# Altium schematic symbol library 60W-PD.SchLib: 134 symbols
Pins are listed as number, name and electrical type; pins without a type are passive.

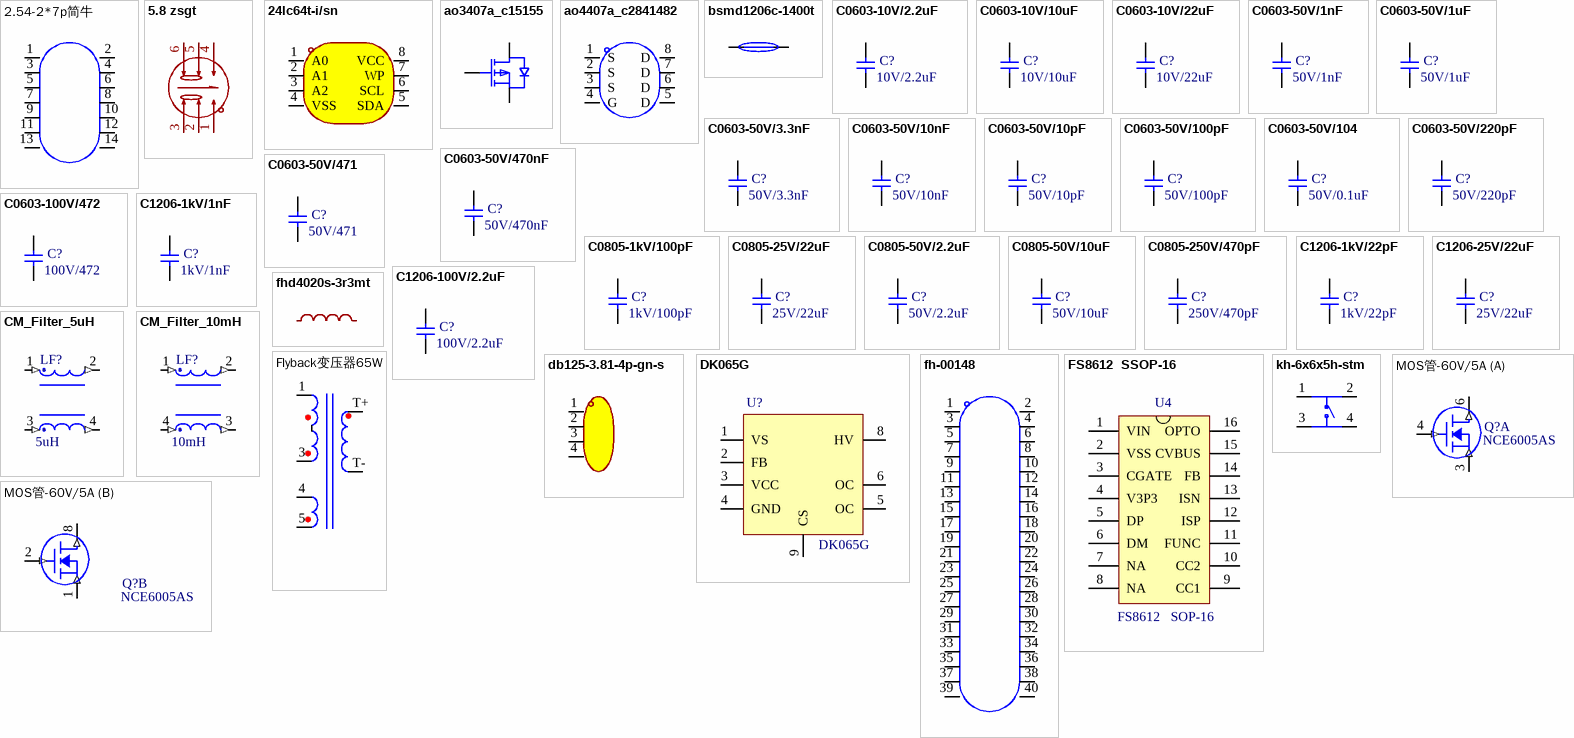
[diagram p0: symbols 2.54-2*7p简牛 to MOS管-60V/5A]

## 2.54-2*7p简牛
designator P?  (value not drawn)
连接器类型:简牛座;间距:2.54mm;结构:2x7P;安装方式:直插;行距:2.54mm;排数:2;每排PIN数:7;触头材质:黄铜;触头镀层:金;; Manufacturer: BOOMELE(博穆精密); Symbol: HDR-IDC-2.54-2X7P; AddInBom: yes; ModelId: 1e191473481d43b08e40c7df32061c8c; ModelName: IDC-TH_14P-P2.54-V-R2-C7-S2.54; ModelTransform: 999.998,348.41478,0,0,0,0,0,3.937,-118.11; Connector Type: 简牛座; Pitch: 2.54mm; Number of Positions or Pins: 2x7P; Holder Type: 直插; Number of PINs Per Row: 7; LCSC Part Name: 2.54mm 2x7P 排数:2 每排P数:7; SupplierPart: C11215; ManufacturerPart: 2.54-2*7P简牛; Supplier Footprint: 插件,P=2.54mm; JLCPCB Part Class: Extended Part; Datasheet: https://item.szlcsc.com/datasheet/2.54-2*7P%25E7%25AE%2580%25E7%2589%259B/11764.html; Supplier: LCSC; ConvertToPcb: yes; FootprintName: IDC-TH_14P-P2.54-V-R2-C7-S2.54; Row Spacing: 2.54mm; Number of Rows: 2; Contact Material: 黄铜; Contact Plating: 金
footprint IDC-TH_14P-P2.54-V-R2-C7-S2.54
pins: 1, 2, 3, 4, 5, 6, 7, 8, 9, 10, 11, 12, 13, 14

## 5.8 zsgt
designator SW?  (value not drawn)
电路结构:双刀双掷;自锁/无锁:自锁;安装方式:直插;触点电流:110mA;额定电压:30V;带灯:不带;作用力:1.5N;工作寿命:10万次;; Manufacturer: SHOU HAN(首韩); AddInBom: yes; ModelId: 3b6e980975cd43bda015b2e9aaa869d3; ModelName: SW-TH_5.8ZSGT; ModelTransform: 228.346,228.346,0,0,0,0,0,0,-141.732; Circuit: 双刀双掷; Self Lock / No Lock: 自锁; Actuator Style: 方形按钮; Contact Current: 110mA; Voltage Rating: 30V; Actuator/Cap Color: 白色; With Lamp: 不带; Operating Force: 1.5N; Life: 10万次; Symbol: 5.8 ZSGT; LCSC Part Name: 5.8*5.8有头/高头 带锁/自锁开关 泡泡机开关; SupplierPart: C2681587; ManufacturerPart: 5.8 ZSGT; Supplier Footprint: 插件; JLCPCB Part Class: Extended Part; Datasheet: https://item.szlcsc.com/datasheet/5.8%2520ZSGT/2774930.html; Supplier: LCSC; ConvertToPcb: yes; FootprintName: SW-TH_5.8ZSGT; Mounting Type: 直插; Termination Style: PC引脚; Operating Temperature: -10℃~+70℃
footprint SW-TH_5.8ZSGT
pins: 1, 2, 3, 4, 5, 6

## 24lc64t-i/sn
designator U?  (value not drawn)
接口类型:I2C;存储容量:64Kbit;时钟频率(fc):400kHz;; Manufacturer: MICROCHIP(美国微芯); Symbol: 24LC64T-I/SN SOP-8; AddInBom: yes; ModelId: e81d2f7d937b4a6ab1dca543ff5d56a4; ModelName: SOIC-8_L4.9-W3.9-H1.7-LS6.0-P1.27; ModelTransform: 192.913,236.22,0,0,0,0,0,0,0; Interface: I2C; Memory Size: 64Kbit; Clock Frequency: 400kHz; Write Cycle Time(Tw): 5ms; Data Retention - TDR (Year): 200年; Write Cycle Endurance: 100万次; Voltage - Supply: 2.5V~5.5V; LCSC Part Name: 64K I²C 串行 EEPROM; SupplierPart: C5460; ManufacturerPart: 24LC64T-I/SN; Supplier Footprint: SOIC-8; JLCPCB Part Class: Extended Part; Datasheet: https://item.szlcsc.com/datasheet/24LC64T-I%252FSN/5911.html; Supplier: LCSC; ConvertToPcb: yes; FootprintName: SOIC-8_L4.9-W3.9-P1.27-LS6.0-BL; Features: 噪声抑制功能；硬件写保护功能; Operating Temperature: -40℃~+85℃
footprint SOIC-8_L4.9-W3.9-P1.27-LS6.0-BL
pins: 1 A0, 2 A1, 3 A2, 4 VSS, 5 SDA, 6 SCL, 7 WP, 8 VCC

## ao3407a_c15155
designator Q?  (value not drawn)
数量:1个P沟道;漏源电压(Vdss):30V;连续漏极电流(Id):4.3A;导通电阻(RDS(on)):48mΩ@10V;耗散功率(Pd):-;阈值电压(Vgs(th)):2.5V@250uA;; Manufacturer: AOS; AddInBom: yes; ModelId: 89cb27a44ab2466697082bb9fd73a7d0; ModelName: SOT-23-3L_L2.9-W1.6-H1.1-LS2.8-P0.95; ModelTransform: 114.173,110.236,0,90,0,0,0,0,0; Number: 1个P沟道; Drain to Source Voltage: 30V; Current - Continuous Drain(Id): 4.3A; Gate Charge(Qg): 16nC@10V; Input Capacitance(Ciss): 830pF; Reverse Transfer Capacitance (Crss@Vds): 92pF@15V; Symbol: AO3407A; LCSC Part Name: 1个P沟道 耐压:30V 电流:4.3A; SupplierPart: C15155; ManufacturerPart: AO3407A; Supplier Footprint: SOT-23; JLCPCB Part Class: Extended Part; Datasheet: https://item.szlcsc.com/datasheet/AO3407A/15829.html; Supplier: LCSC; ConvertToPcb: yes; FootprintName: SOT-23-3_L2.9-W1.6-P1.90-LS2.8-BR; RDS(on): 48mΩ@10V; Pd - Power Dissipation: -; Gate Threshold Voltage (Vgs(th)): 2.5V@250uA; Operating Temperature: -; Configuration: -; Type: -; Output Capacitance(Coss): -
footprint SOT-23-3_L2.9-W1.6-P1.90-LS2.8-BR
pins: 1 G, 2 S, 3 D

## ao4407a_c2841482
designator Q?  (value not drawn)
数量:1个P沟道;漏源电压(Vdss):30V;连续漏极电流(Id):14A;导通电阻(RDS(on)):9.5mΩ@10V；14.7mΩ@4.5V;耗散功率(Pd):3.1W;阈值电压(Vgs(th)):1.8V@250uA;; Manufacturer: UMW(友台半导体); AddInBom: yes; ModelId: a3315c1c78f949e6bb82c6eaca1c53c7; ModelName: SOP-8_L5.0-W4.0-H1.8-LS6.2-P1.27; ModelTransform: 244.094,196.85,0,90,0,0,0,0,0; Number: 1个P沟道; Drain to Source Voltage: 30V; Current - Continuous Drain(Id): 14A; Pd - Power Dissipation: 3.1W; Gate Charge(Qg): 40nC@10V；20nC@4.5V; Input Capacitance(Ciss): 2.05nF; Reverse Transfer Capacitance (Crss@Vds): 300pF; Output Capacitance(Coss): 330pF; Symbol: AO4407A_C2841482; LCSC Part Name: 1个P沟道 耐压:30V 电流:14A; SupplierPart: C2841482; ManufacturerPart: AO4407A; Supplier Footprint: SOP-8; JLCPCB Part Class: Extended Part; Datasheet: https://item.szlcsc.com/datasheet/AO4407A/3024118.html; Supplier: LCSC; ConvertToPcb: yes; FootprintName: SOP-8_L5.0-W4.0-P1.27-LS6.0-BL; RDS(on): 9.5mΩ@10V；14.7mΩ@4.5V; Gate Threshold Voltage (Vgs(th)): 1.8V@250uA; Operating Temperature: -55℃~+150℃
footprint SOP-8_L5.0-W4.0-P1.27-LS6.0-BL
pins: 1 S, 2 S, 3 S, 4 G, 5 D, 6 D, 7 D, 8 D

## bsmd1206c-1400t
designator F?  (value not drawn)
类型:贴片式保险丝;额定电流:4A;额定电压 (AC):72V;额定电压:72V;分断能力:50A;; Manufacturer: BHFUSE(佰宏); AddInBom: yes; ModelId: f1628daad26847a79b887277a2bc8541; ModelName: F1206_L3.2-W1.7-H0.6; ModelTransform: 125.984,66.929,0,0,0,0,0,0,0; Type: 贴片式保险丝; Current Rating: 4A; Voltage Rating (AC): 72V; Interrupt Rating: 50A; Symbol: BSMD1206C-1400T; LCSC Part Name: 1206 4A 72V 一次性 慢速熔断; SupplierPart: C41367227; ManufacturerPart: BSMD1206C-1400T; Supplier Footprint: 1206; JLCPCB Part Class: Extended Part; Datasheet: https://item.szlcsc.com/datasheet/BSMD1206C-1400T/43118980.html; Supplier: LCSC; ConvertToPcb: yes; FootprintName: F1206; Voltage Rating (DC): 72V; Operating Temperature: -55℃~+150℃; Length: 3.2mm; Width: 1.6mm
footprint F1206
pins: 1, 2

## C0603-10V/2.2uF
designator C?, comment 10V/2.2uF
0603,10V/2.2uF
footprint C0603
pins: 1, 2

## C0603-10V/10uF
designator C?, comment 10V/10uF
0603,10V/10uF
footprint C0603
pins: 1, 2

## C0603-10V/22uF
designator C?, comment 10V/22uF
0603,10V/22uF
footprint C0603
pins: 1, 2

## C0603-50V/1nF
designator C?, comment 50V/1nF
0603,50V/1nF
footprint C0603
pins: 1, 2

## C0603-50V/1uF
designator C?, comment 50V/1uF
0603,50V/1uF
footprint C0603
pins: 1, 2

## C0603-50V/3.3nF
designator C?, comment 50V/3.3nF
0603,50V/3.3nF
footprint C0603
pins: 1, 2

## C0603-50V/10nF
designator C?, comment 50V/10nF
0603,50V/10nF
footprint C0603
pins: 1, 2

## C0603-50V/10pF
designator C?, comment 50V/10pF
0603,50V/10pF
footprint C0603
pins: 1, 2

## C0603-50V/100pF
designator C?, comment 50V/100pF
0603,50V/100pF
footprint C0603
pins: 1, 2

## C0603-50V/104
designator C?, comment 50V/0.1uF
0603,50V/104
footprint C0603
pins: 1, 2

## C0603-50V/220pF
designator C?, comment 50V/220pF
0603,50V/220pF
footprint C0603
pins: 1, 2

## C0603-50V/470nF
designator C?, comment 50V/470nF
0603,50V/470nF
footprint C0603
pins: 1, 2

## C0603-50V/471
designator C?, comment 50V/471
0603,50V/471,
footprint C0603
pins: 1, 2

## C0603-100V/472
designator C?, comment 100V/472
0603,100V/472
footprint C0603
pins: 1, 2

## C0805-1kV/100pF
designator C?, comment 1kV/100pF
0805,1kV/100pF
footprint C0805
pins: 1, 2

## C0805-25V/22uF
designator C?, comment 25V/22uF
0805,25V/22uF,
footprint C0805
pins: 1, 2

## C0805-50V/2.2uF
designator C?, comment 50V/2.2uF
0805,50V/2.2uF,
footprint C0805
pins: 1, 2

## C0805-50V/10uF
designator C?, comment 50V/10uF
0805,50V/10uF,
footprint C0805
pins: 1, 2

## C0805-250V/470pF
designator C?, comment 250V/470pF
0805,250V/470pF
footprint C0805
pins: 1, 2

## C1206-1kV/1nF
designator C?, comment 1kV/1nF
1206,1kV/1nF
footprint C1206
pins: 1, 2

## C1206-1kV/22pF
designator C?, comment 1kV/22pF
1206,1kV/22pF
footprint C1206
pins: 1, 2

## C1206-25V/22uF
designator C?, comment 25V/22uF
1206,25V/22uF
footprint C1206
pins: 1, 2

## C1206-100V/2.2uF
designator C?, comment 100V/2.2uF
1206,100V/2.2uF
footprint C1206
pins: 1, 2

## CM_Filter_5uH
designator LF?, comment 5uH
5uH@100kHz,5A,PSMCAQ1050-501P,PROD(谱罗德)
footprint FILTER-SMD_4P-L9.5-W8.3_PSMCAQ1050-222P
pins: 1 (in), 2 (out), 3 (in), 4 (out)

## CM_Filter_10mH
designator LF?, comment 10mH
类型：SQ扁平线电感 电感值：10mH@@额定电流：1.5A@@直流电阻：200mΩMAX@@线径：0.1*1.0线,XR(祥如)
footprint IND-TH_4P-L14.0-W9.0_XRSQ1010-10MH-V-58-1
pins: 1 (in), 2 (out), 3 4 (out), 4 3 (in)

## db125-3.81-4p-gn-s
designator U?  (value not drawn)
结构:1x4P;间距:3.81mm;颜色:绿色;安装方式:直插;排数:1;每排PIN数:4;额定电流:10A;额定电压:300V;线规 - AWG:16~26;线规 - 平方毫米:1;工作温度:-40℃~+105℃;; Manufacturer: DORABO(地博电气); AddInBom: yes; ModelId: 11e8572fb837469c9a45098d5493725c; ModelName: CONN-TH_DB3.81-LI-4P-125; ModelTransform: 619.6736,291.338,0,180,0,0,11.811,-7.874,-157.48; Number of Positions or Pins: 1x4P; Pitch: 3.81mm; Number of PINs Per Row: 4; Screw Specification: M2; Current Rating: 10A; Voltage Rating (Max): 300V; Wire Gauge - AWG: 16~26; Wire Gauge - mm2: 1; Symbol: DB125-3.81-4P; LCSC Part Name: 1x4P 3.81mm 直插 排数:1 每排P数:4; SupplierPart: C395880; ManufacturerPart: DB125-3.81-4P-GN-S; Supplier Footprint: 插件,P=3.81mm; JLCPCB Part Class: Extended Part; Datasheet: https://item.szlcsc.com/datasheet/DB125-3.81-4P-GN-S/376627.html; Supplier: LCSC; ConvertToPcb: yes; FootprintName: CONN-TH_DB125-3.81-4P; Color: 绿色; Mounting Type: 直插; Number of Pins: 4P; Number of Rows: 1; Operating Temperature: -40℃~+105℃
footprint CONN-TH_DB125-3.81-4P
pins: 1, 2, 3, 4

## DK065G
designator U?
DK065G,DK(东科半导体),DFN-7(8x8)
footprint DFN-7_L8.0-W8.0-P2.00-BL-EP
pins: 1 VS, 2 FB, 3 VCC, 4 GND, 5 OC, 6 OC, 8 HV, 9 CS

## fh-00148
designator H?  (value not drawn)
插孔结构:2x20P;间距:2.54mm;行距:2.54mm;圆孔/方孔:方孔;安装方式:立贴;排数:双排;总孔位数:40P;额定电流:3A;额定电压:-;插孔方向:顶部;塑高:7.1mm;触头材质:黄铜;触头镀层:金;工作温度:-40℃~+105℃;; Manufacturer: Liansheng(连盛); AddInBom: yes; ModelId: 353f1c4124674cc49d933acc2b8337a3; ModelName: HDR-SMD_40P-P2.54-F-LS-2X20P-R2; ModelTransform: 2015.74384,279.527,0,0,0,0,0.002,0,0; Holes Structure: 2x20P; Pitch: 2.54mm; Circular Hole / Square Hole: 方孔; Number of Positions: 40P; Current Rating: 3A; Holes Direction: 顶部; Symbol: FH-00148; LCSC Part Name: 间距:2.54mm 2x20P 立贴; SupplierPart: C2685092; ManufacturerPart: FH-00148; Supplier Footprint: SMD,P=2.54mm; JLCPCB Part Class: Extended Part; Datasheet: https://item.szlcsc.com/datasheet/FH-00148/2784366.html; Supplier: LCSC; ConvertToPcb: yes; FootprintName: HDR-SMD_40P-P2.54-V-F-R2-C20-S7.1-EH; Row Spacing: 2.54mm; Mounting Type: 立贴; Number of Rows: 双排; Voltage Rating (Max): -; Insulation Height: 7.1mm; Contact Material: 黄铜; Contact Plating: 金; Operating Temperature: -40℃~+105℃
footprint HDR-SMD_40P-P2.54-V-F-R2-C20-S7.1-EH
pins: 1, 2, 3, 4, 5, 6, 7, 8, 9, 10, 11, 12, 13, 14, 15, 16, 17, 18, 19, 20, 21, 22, 23, 24, 25, 26, 27, 28, 29, 30, 31, 32, 33, 34, 35, 36, 37, 38, 39, 40

## fhd4020s-3r3mt
designator L?  (value not drawn)
电感值:3.3uH;精度:±20%;额定电流:4A;饱和电流(Isat):5.9A;类型:绕线电感;; Manufacturer: cjiang(长江微电); AddInBom: yes; ModelId: 45bc3737ecfd4f3bb122605ee525b018; ModelName: IND-SMD_L4.0-W4.0-H1.9; ModelTransform: 157.48,157.484,0,0,0,0,0,0,0; Value: 3.3uH; Tolerance: ±20%; Current Rating: 4A; Current - Saturation(Isat): 5.9A; DC Resistance(DCR): 73mΩ; Type: 绕线电感; Symbol: FHD4020S-3R3MT; LCSC Part Name: 3.3uH ±20% 5.9A; SupplierPart: C602030; ManufacturerPart: FHD4020S-3R3MT; Supplier Footprint: SMD,4x4mm; JLCPCB Part Class: Extended Part; Datasheet: https://atta.szlcsc.com/upload/public/pdf/source/20200609/C601990_BCEA243EC4DA0A9A288AA78A6DFB48A5.pdf; Supplier: LCSC; ConvertToPcb: yes; FootprintName: IND-SMD_L4.0-W4.0
footprint IND-SMD_L4.0-W4.0
pins: 1, 2

## Flyback变压器65W
designator T?
footprint ATQ23.7
pins: 1, 3, 4, 5, T+, T-
text: ●

## FS8612  SSOP-16
designator U4, comment FS8612   SOP-16
速芯微,FS8612,typeC PD3.0协议芯片,SSOP-16
footprint SSOP-16-LT1008
pins: 1 VIN, 2 VSS, 3 CGATE, 4 V3P3, 5 DP, 6 DM, 7 NA, 8 NA, 9 CC1, 10 CC2, 11 FUNC, 12 ISP, 13 ISN, 14 FB, 15 CVBUS, 16 OPTO

## kh-6x6x5h-stm
designator SW?  (value not drawn)
电路结构:单刀单掷;按钮形状:圆形按钮;安装方式:立贴;开关长度:6mm;开关宽度:6mm;开关高度:5mm;带支架:不带支架;触点电流:50mA;额定电压:12V;工作寿命:8万次;; Manufacturer: kinghelm(金航标); AddInBom: yes; ModelId: 46371efb35684031937580a0045530ec; ModelName: SW-SMD_4P-L6.0-W6.0-P4.50-LS9.0_H5.0; ModelTransform: 354.33,236.25937,0,0,0,0,0,0,0; Circuit: 单刀单掷; Actuator Style: 圆形按钮; Switch Height: 5mm; with Bracket: 不带支架; Contact Current: 50mA; Voltage Rating: 12V; Actuator/Cap Color: 黑色; Life: 8万次; Symbol: KH-6X6X5H-STM; LCSC Part Name: 6*6*5mm 立贴 轻触开关; SupplierPart: C2837531; ManufacturerPart: KH-6X6X5H-STM; Supplier Footprint: SMD-4P,6x6mm; JLCPCB Part Class: Extended Part; Datasheet: https://item.szlcsc.com/datasheet/KH-6X6X5H-STM/3009601.html; Supplier: LCSC; ConvertToPcb: yes; FootprintName: SW-SMD_4P-L6.0-W6.0-P4.50-LS9.0_H5.0; Mounting Type: 立贴; Length: 6mm; Width: 6mm; Termination Style: 鸥翼型
footprint SW-SMD_4P-L6.0-W6.0-P4.50-LS9.0_H5.0
pins: 1, 2, 3, 4

## MOS管-60V/5A
designator Q?, comment NCE6005AS
NCE6005AS,60V/5A,Rdson=35m,新洁能,2个N沟道
footprint SOP-8_L4.9-W3.9-P1.27-LS6.0-BL-2mos
part A pins: 3 S (in), 4 G (in), 6 D (out)
part B pins: 1 S (in), 2 G (in), 8 D (out)

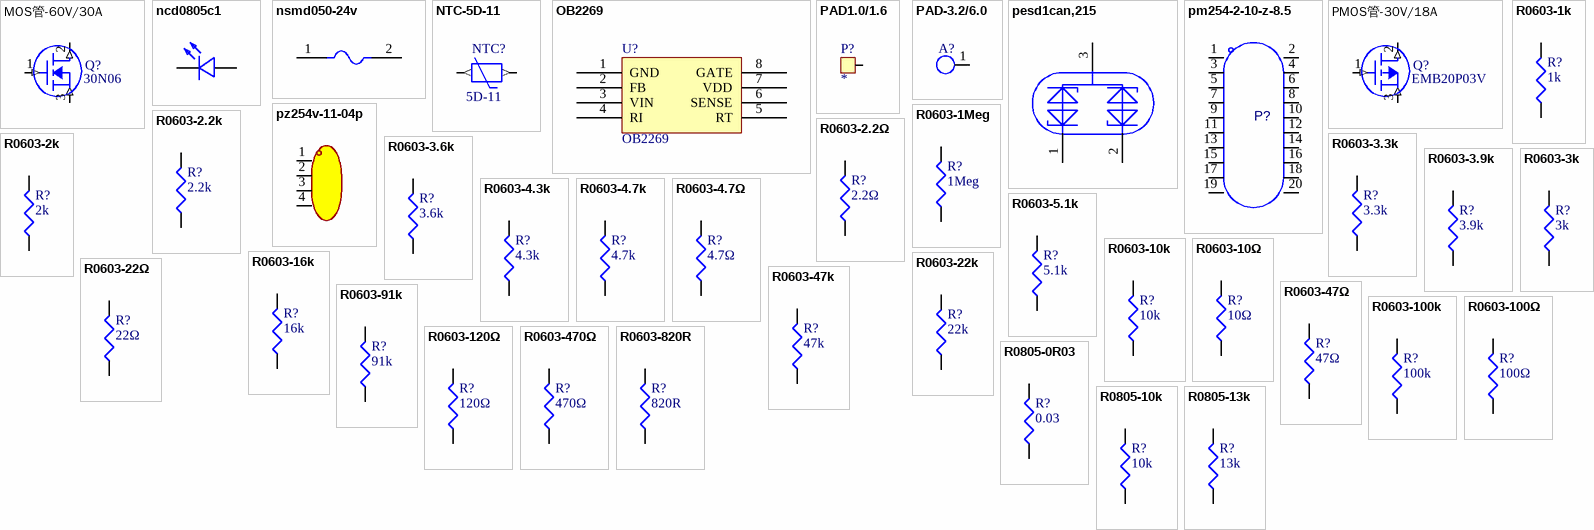
[diagram p1: symbols MOS管-60V/30A to R0805-13k]

## MOS管-60V/30A
designator Q?, comment 30N06
30N06,60V/30A,UMW(友台半导体),TO-252
footprint TO-252-2_L6.6-W6.1-P4.57-LS9.9-BR-CW
pins: 1 G (in), 2 D (out), 3 S (in)

## ncd0805c1
designator LED?  (value not drawn)
灯头类型:-;发光颜色:黄绿色;正向压降(Vf):1.6V~2.6V;功率:65mW;正向电流:25mA;波长:565nm~578nm;二极管配置:独立二极管;透镜颜色:-;色温:-;发光强度:55mcd;发光角度:130°;载带方式:-;工作温度:-30℃~+85℃;; Manufacturer: 国星光电; Symbol: FC-2012GHK-570A08; AddInBom: yes; ModelId: b1c5ed7a4f6e46d3bc6f6cc7c20f3fea; ModelName: LED0805-RD; ModelTransform: 79.527,49.2125,0,0,0,0,0,0,0; Illumination Color: 黄绿色; Power(Watts): 65mW; Forward Current: 25mA; Peak Wavelength: 576nm; Diode Configuration: 独立二极管; Luminous Intensity: 55mcd; Viewing Angle: 130°; LCSC Part Name: 片式发光二极管; SupplierPart: C84257; ManufacturerPart: NCD0805C1; Supplier Footprint: 0805; JLCPCB Part Class: Extended Part; Datasheet: https://item.szlcsc.com/datasheet/NCD0805C1/85426.html; Supplier: LCSC; ConvertToPcb: yes; FootprintName: LED0805-RD; Lamp Holder Type: -; Voltage - Forward(Vf): 1.6V~2.6V; Wavelength - Dominant: 565nm~578nm; Lens Color: -; Color Temperature: -; Mounting Style: -; Operating Temperature: -30℃~+85℃
footprint LED0805-RD
pins: 1 K, 2 A

## nsmd050-24v
designator F?  (value not drawn)
耐压(Vmax):24V;最大电流(Imax):100A;保持电流(Ihold):500mA;跳闸电流(Itrip):1A;; Manufacturer: 台湾陆海; AddInBom: yes; ModelId: f1628daad26847a79b887277a2bc8541; ModelName: F1206_L3.2-W1.7-H0.6; ModelTransform: 125.984,66.929,0,0,0,0,0,0,0; Voltage - Max: 24V; Current - Max: 100A; Hold Current: 500mA; Trip Current: 1A; Power Dissipation: 600mW; Resistance - Initial (Ri) (Min): 150mΩ; Resistance - Post Trip (R1) (Max): 700mΩ; Time to Trip(Max): 100ms; Symbol: nSMD050-24V; LCSC Part Name: 0.50A  24V 自恢复保险丝; SupplierPart: C70076; ManufacturerPart: nSMD050-24V; Supplier Footprint: 1206; JLCPCB Part Class: Extended Part; Datasheet: https://item.szlcsc.com/datasheet/nSMD050-24V/71171.html; Supplier: LCSC; ConvertToPcb: yes; FootprintName: F1206; Length: 3.5mm; Width: 1.8mm; Height: 1.4mm
footprint F1206
pins: 1, 2

## NTC-5D-11
designator NTC?, comment 5D-11
RUILON(瑞隆源),NTC 5D-11
footprint RES-TH_L12.5-W6.5-P7.50-D1.2-S6.3
pins: 1 (out), 2 (out)

## OB2269
designator U?
OB(昂宝),OB2269CCPA,Dmax=0.85,
footprint SOP-8_L4.9-W3.9-P1.27-LS6.0-BL
pins: 1 GND, 2 FB, 3 VIN, 4 RI, 5 RT, 6 SENSE, 7 VDD, 8 GATE

## PAD1.0/1.6
designator P?
footprint PAD1.0/1.6
pins: 1

## PAD-3.2/6.0
designator A?  (value not drawn)
footprint PAD-3.2/6.0
pins: 1

## pesd1can,215
designator D?  (value not drawn)
极性:双向;反向截止电压(Vrwm):24V;钳位电压:70V;峰值脉冲电流(Ipp):3A@8/20us;峰值脉冲功率(Ppp):200W@8/20us;击穿电压(VBR):27.8V;; Manufacturer: Nexperia(安世); AddInBom: yes; ModelId: c62791f0466c4ae2a892c056b845b0ca; ModelName: SOT-23-3P_L2.9-W1.3-H1.0-LS2.4-P0.95; ModelTransform: 98.64468,114.173,0,180,0,0,0.001,-0.002,0; Polarity: 双向; Reverse Stand-Off Voltage (Vrwm): 24V; Clamping Voltage: 70V; Voltage - Breakdown: 27.8V; Reverse Leakage Current (Ir): 1nA; Number of Channels: 双路; level of protection: IEC 61000-4-5；IEC 61000-4-2; Type: ESD; Junction Capacitance: 11pF; Symbol: PESD1CAN,215; LCSC Part Name: 双向ESD 24V截止 峰值脉冲电流：3A@8/20us; SupplierPart: C15771; ManufacturerPart: PESD1CAN,215; Supplier Footprint: SOT-23; JLCPCB Part Class: Extended Part; Datasheet: https://item.szlcsc.com/datasheet/PESD1CAN%252C215/16453.html; Supplier: LCSC; ConvertToPcb: yes; FootprintName: SOT-23_L2.9-W1.3-P1.90-LS2.4-BR; Peak Pulse Current (Ipp): 3A@8/20us; Peak Pulse Power Dissipation (Ppp): 200W@8/20us; Operating Temperature: -65℃~+150℃
footprint SOT-23_L2.9-W1.3-P1.90-LS2.4-BR
pins: 1, 2, 3

## pm254-2-10-z-8.5
designator P?  (value not drawn)
插孔结构:2x10P;间距:2.54mm;行距:2.54mm;圆孔/方孔:方孔;安装方式:直插;排数:双排;总孔位数:20P;额定电流:3A;额定电压:-;插孔方向:顶部;塑高:8.5mm;触头材质:铜合金;工作温度:-40℃~+105℃;; Manufacturer: HCTL(华灿天禄); AddInBom: yes; ModelId: b43d0c057b6b4175ab19ee916be5b1eb; ModelName: HDR-TH_20P-P2.54-F-LI-2X10P; ModelTransform: 1019.72237,196.85,0,0,0,0,0,0,-125.984; Holes Structure: 2x10P; Pitch: 2.54mm; Circular Hole / Square Hole: 方孔; Number of Positions: 20P; Current Rating: 3A; Holes Direction: 顶部; Symbol: PM254-2-10-Z-8.5; LCSC Part Name: 2x10P 间距:2.54mm 直插; SupplierPart: C2897411; ManufacturerPart: PM254-2-10-Z-8.5; Supplier Footprint: 插件,P=2.54mm; JLCPCB Part Class: Extended Part; Datasheet: https://item.szlcsc.com/datasheet/PM254-2-10-Z-8.5/3142416.html; Supplier: LCSC; ConvertToPcb: yes; FootprintName: HDR-TH_20P-P2.54-V-F-R2-C10-S2.54; Row Spacing: 2.54mm; Mounting Type: 直插; Number of Rows: 双排; Voltage Rating (Max): -; Insulation Height: 8.5mm; Contact Material: 铜合金; Operating Temperature: -40℃~+105℃
footprint HDR-TH_20P-P2.54-V-F-R2-C10-S2.54
pins: 1, 2, 3, 4, 5, 6, 7, 8, 9, 10, 11, 12, 13, 14, 15, 16, 17, 18, 19, 20

## PMOS管-30V/18A
designator Q?, comment EMB20P03V
EMB20P03V,30V/18A,EMC(杰力),DFN-8(3x3)
footprint DFN-8_L3.0-W3.0-P0.65-BL
pins: 1 G (in), 2 D (out), 3 S (in)

## pz254v-11-04p
designator H?  (value not drawn)
插针结构:1x4P;间距:2.54mm;行距:-;圆针/方针:方针;安装方式:直插;排数:单排;总PIN位数:4P;额定电流:3A;额定电压:250V;配合针长度:6mm;塑高:2.5mm;端接针长度:3mm;触头材质:-;工作温度:-40℃~+105℃;颜色:黑色;; Manufacturer: XFCN(兴飞); Symbol: PZ254V-11-04P_C2691448; AddInBom: yes; ModelId: 112f4d05e8d64e99ab9a333894bea4f9; ModelName: HDR-TH_4P-P2.54-M-LI-1X4P; ModelTransform: 399.999,104.7242,0,0,0,0,0,0,-118.11; Pin Structure: 1x4P; Pitch: 2.54mm; Circluar Pins/Square Pins: 方针; Current Rating: 3A; Voltage Rating (Max): 250V; LCSC Part Name: 1x4P 间距:2.54mm 方针 直插; SupplierPart: C2691448; ManufacturerPart: PZ254V-11-04P; Supplier Footprint: 插件,P=2.54mm; JLCPCB Part Class: Extended Part; Datasheet: https://item.szlcsc.com/datasheet/PZ254V-11-04P/2801085.html; Supplier: LCSC; ConvertToPcb: yes; FootprintName: HDR-TH_4P-P2.54-V-M; Row Spacing: -; Mounting Type: 直插; Number of Rows: 单排; Number of Pins: 4P; Length of Mating Pin: 6mm; Insulation Height: 2.5mm; Length of End Connection Pin: 3mm; Contact Material: -; Operating Temperature: -40℃~+105℃; Color: 黑色
footprint HDR-TH_4P-P2.54-V-M
pins: 1, 2, 3, 4

## R0603-1k
designator R?, comment 1k
0603,1k
footprint R0603
pins: 1, 2

## R0603-1Meg
designator R?, comment 1Meg
0603,1Meg
footprint R0603
pins: 1, 2

## R0603-2.2k
designator R?, comment 2.2k
0603,2.2k
footprint R0603
pins: 1, 2

## R0603-2.2Ω
designator R?, comment 2.2Ω
0603,2.2Ω
footprint R0603
pins: 1, 2

## R0603-2k
designator R?, comment 2k
0603,2k
footprint R0603
pins: 1, 2

## R0603-3.3k
designator R?, comment 3.3k
0603,3.3k
footprint R0603
pins: 1, 2

## R0603-3.6k
designator R?, comment 3.6k
0603,3.6k
footprint R0603
pins: 1, 2

## R0603-3.9k
designator R?, comment 3.9k
0603,3.9k
footprint R0603
pins: 1, 2

## R0603-3k
designator R?, comment 3k
0603,3k
footprint R0603
pins: 1, 2

## R0603-4.3k
designator R?, comment 4.3k
0603,4.3k
footprint R0603
pins: 1, 2

## R0603-4.7k
designator R?, comment 4.7k
0603,4.7k
footprint R0603
pins: 1, 2

## R0603-4.7Ω
designator R?, comment 4.7Ω
0603,4.7Ω
footprint R0603
pins: 1, 2

## R0603-5.1k
designator R?, comment 5.1k
0603,5.1k
footprint R0603
pins: 1, 2

## R0603-10k
designator R?, comment 10k
0603,10k
footprint R0603
pins: 1, 2

## R0603-10Ω
designator R?, comment 10Ω
0603,10Ω
footprint R0603
pins: 1, 2

## R0603-16k
designator R?, comment 16k
0603,16k
footprint R0603
pins: 1, 2

## R0603-22k
designator R?, comment 22k
0603,22k
footprint R0603
pins: 1, 2

## R0603-22Ω
designator R?, comment 22Ω
0603,22Ω
footprint R0603
pins: 1, 2

## R0603-47k
designator R?, comment 47k
0603,47k
footprint R0603
pins: 1, 2

## R0603-47Ω
designator R?, comment 47Ω
0603,47Ω
footprint R0603
pins: 1, 2

## R0603-91k
designator R?, comment 91k
0603,91k
footprint R0603
pins: 1, 2

## R0603-100k
designator R?, comment 100k
0603,100k
footprint R0603
pins: 1, 2

## R0603-100Ω
designator R?, comment 100Ω
0603,100Ω
footprint R0603
pins: 1, 2

## R0603-120Ω
designator R?, comment 120Ω
0603,120Ω
footprint R0603
pins: 1, 2

## R0603-470Ω
designator R?, comment 470Ω
0603,470Ω
footprint R0603
pins: 1, 2

## R0603-820R
designator R?, comment 820R
0603,820R
footprint R0603
pins: 1, 2

## R0805-0R03
designator R?, comment 0.03
0805,0.03,RE0805FAR030,捷而瑞
footprint R0805
pins: 1, 2

## R0805-10k
designator R?, comment 10k
0805,10k
footprint R0805
pins: 1, 2

## R0805-13k
designator R?, comment 13k
0805,13k
footprint R0805
pins: 1, 2

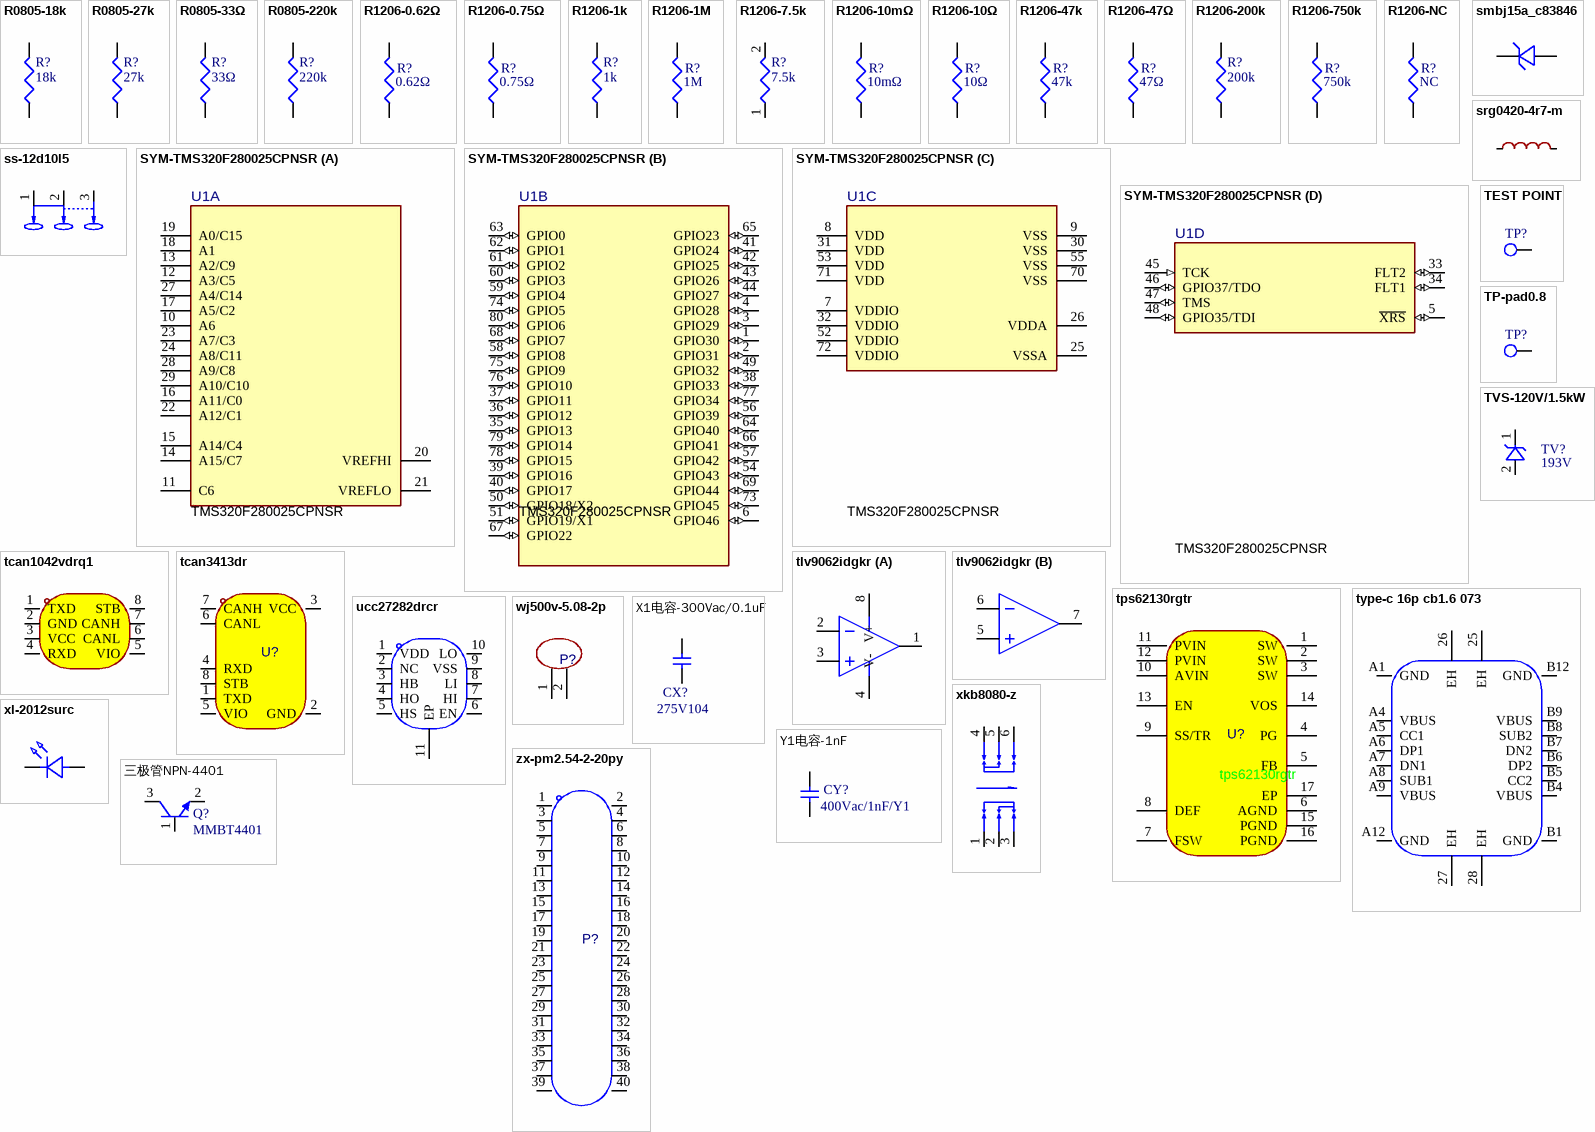
[diagram p2: symbols R0805-18k to 三极管NPN-4401]

## R0805-18k
designator R?, comment 18k
0805,18k
footprint R0805
pins: 1, 2

## R0805-27k
designator R?, comment 27k
0805,27k
footprint R0805
pins: 1, 2

## R0805-33Ω
designator R?, comment 33Ω
0805,33Ω
footprint R0805
pins: 1, 2

## R0805-220k
designator R?, comment 220k
0805,220k
footprint R0805
pins: 1, 2

## R1206-0.62Ω
designator R?, comment 0.62Ω
1206,0.62Ω
footprint R1206
pins: 1, 2

## R1206-0.75Ω
designator R?, comment 0.75Ω
1206,0.75Ω
footprint R1206
pins: 1, 2

## R1206-1k
designator R?, comment 1k
1206,1k
footprint R1206
pins: 1, 2

## R1206-1M
designator R?, comment 1M
1206,1M
footprint R1206
pins: 1, 2

## R1206-7.5k
designator R?, comment 7.5k
1206,7.5k
footprint R1206
pins: 1, 2

## R1206-10mΩ
designator R?, comment 10mΩ
1206,10mΩ
footprint R1206
pins: 1, 2

## R1206-10Ω
designator R?, comment 10Ω
1206,10Ω
footprint R1206
pins: 1, 2

## R1206-47k
designator R?, comment 47k
1206,47k
footprint R1206
pins: 1, 2

## R1206-47Ω
designator R?, comment 47Ω
1206,47Ω
footprint R1206
pins: 1, 2

## R1206-200k
designator R?, comment 200k
1206,200k
footprint R1206
pins: 1, 2

## R1206-750k
designator R?, comment 750k
1206,750k
footprint R1206
pins: 1, 2

## R1206-NC
designator R?, comment NC
1206,NC
footprint R1206
pins: 1, 2

## smbj15a_c83846
designator D?  (value not drawn)
极性:单向;反向截止电压(Vrwm):15V;钳位电压:24.4V;峰值脉冲电流(Ipp):24.6A;峰值脉冲功率(Ppp):600W;击穿电压(VBR):16.7V;; Manufacturer: Littelfuse(美国力特); AddInBom: yes; ModelId: 5e8926c661484ff2a35b83e5ae62aeb9; ModelName: SMB_L4.6-W3.6-LS5.3-RD; ModelTransform: 212.598,141.732,0,0,0,0,0,0,0; Polarity: 单向; Reverse Stand-Off Voltage (Vrwm): 15V; Clamping Voltage: 24.4V; Peak Pulse Current (Ipp): 24.6A; Peak Pulse Power Dissipation (Ppp): 600W; Voltage - Breakdown: 16.7V; Reverse Leakage Current (Ir): 1uA; level of protection: IEC 61000-4-4；IEC 61000-4-2; Type: TVS; Symbol: SMBJ15A_C83846; LCSC Part Name: 单向TVS 15V截止 峰值浪涌电流：24.6A; SupplierPart: C83846; ManufacturerPart: SMBJ15A; Supplier Footprint: DO-214AA; JLCPCB Part Class: Extended Part; Datasheet: https://item.szlcsc.com/datasheet/SMBJ15A/85013.html; Supplier: LCSC; ConvertToPcb: yes; FootprintName: SMB_L4.6-W3.6-LS5.3-RD; Operating Temperature: -65℃~+150℃
footprint SMB_L4.6-W3.6-LS5.3-RD
pins: 1, 2

## srg0420-4r7-m
designator L?  (value not drawn)
电感值:4.7uH;精度:±20%;额定电流:3A;饱和电流(Isat):3.5A;类型:一体成型电感;; Manufacturer: JIERR(捷而瑞); AddInBom: yes; ModelId: 3b00517e351145dc8b8e2e52a7e5ed2c; ModelName: IND-SMD_L4.6-W4.1-H1.5; ModelTransform: 181.102,161.417,0,0,0,0,0,0,0; Value: 4.7uH; Tolerance: ±20%; Current Rating: 3A; Current - Saturation(Isat): 3.5A; DC Resistance(DCR): 105mΩ; Type: 一体成型电感; Symbol: SRG0420-4R7-M; LCSC Part Name: 4.7μH ±20% 3.5A; SupplierPart: C53462918; ManufacturerPart: SRG0420-4R7-M; Supplier Footprint: SMD,4.6x4.1mm; JLCPCB Part Class: Extended Part; Datasheet: https://item.szlcsc.com/datasheet/SRG0420-4R7-M/56628163.html; Supplier: LCSC; ConvertToPcb: yes; FootprintName: IND-SMD_L4.6-W4.1-A
footprint IND-SMD_L4.6-W4.1-A
pins: 1, 2

## ss-12d10l5
designator S?  (value not drawn)
电路结构:单刀双掷;安装方式:直插;开关颜色:黑色;额定电流:3A;额定电压:125V;工作寿命:1万次;; Manufacturer: XKB Connection(中国星坤); AddInBom: yes; ModelId: c49f07a32c154ec8ad7cf47670a53981; ModelName: SW-TH_L13.0-W6.8-H6.4-P4.7; ModelTransform: 511.81394,267.716,0,0,0,0,0,0,-220.472; Circuit: 单刀双掷; Actuator Style: 矩形柱状; Switch Height: 6.4mm; Actuator Color: 黑色; Current Rating: 3A; Voltage Rating: 125V; Life: 1万次; Symbol: SS-12D10L5; LCSC Part Name: 柄长5mm 直插双档 滑动开关; SupplierPart: C319012; ManufacturerPart: SS-12D10L5; Supplier Footprint: 插件,13x6.8mm; JLCPCB Part Class: Extended Part; Datasheet: https://item.szlcsc.com/datasheet/SS-12D10L5/300104.html; Supplier: LCSC; ConvertToPcb: yes; FootprintName: SW-TH_SS-12D10L5; Termination Style: PC引脚; Length: 13mm; Width: 6.8mm; Mounting Type: 直插; Operating Temperature: -40℃~+85℃
footprint SW-TH_SS-12D10L5
pins: 1, 2, 3

## SYM-TMS320F280025CPNSR
designator U1, comment TMS320F280025CPNSR
32-bit MCU with 100 MHz, FPU, TMU, 128-KB flash, CLB 80-LQFP -40 to 125; Manufacturer: Texas Instruments; TJmax_C: +125°C; Number Of Spi Channels: 2; CompType: IC; Max Supply Voltage: 3.63V; Number Of Pwm Channels: 14; AEC Qualified: No; Memory Size: 128KBytes; Interface: I2C,SPI,UART,CAN,LIN,SCI,Other; Min Supply Voltage: 2.8V; SizeZ_mm: 1.6mm; Number Of Adc Channels: 16; Number Of Timers/Counters: 3; Ram Size: 24KBytes; Number Of Cores: 1; Frequency_Fixed: 100MHz; Number Of I/Os: 43; Data Bus Width: 32bits; Standoff Height: 0.05mm; Core Architecture: TMS320C28x; AEC Category: Q200; TaMin_C: -40°C; Number Of A/D Converters: 2; helpURL: https://upverter.com/upn/revision/e6f10be0003e77e0/; ComponentLink3Description: Online Datasheet; Memory Type: FLASH; ComponentLink3URL: http://www.ti.com/product/GPN/datasheet; ComponentLink1Description: Datasheet Link; ComponentLink2Description: Product Folder; Operating Temperature Range: -40°C to +125°C; Datasheet Path: datasheets/IC-TMS320F280025CPNSR.pdf; Number Of Uart Channels: 1; RoHS: UNKNOWN; Number Of I2C Channels: 2; TaMax_C: +125°C; PackageReference: LQFP80; Part Number: TMS320F280025CPNSR; ComponentLink1URL: http://www.ti.com/lit/ds/symlink/GPN.pdf; ComponentLink2URL: http://www.ti.com/product/GPN; PartId: 1; PartNumber: TMS320F280025CPNSR
footprint PN0080A-MFG
part A pins: 10 A6, 11 C6, 12 A3/C5, 13 A2/C9, 14 A15/C7, 15 A14/C4, 16 A11/C0, 17 A5/C2, 18 A1, 19 A0/C15, 20 VREFHI, 21 VREFLO, 22 A12/C1, 23 A7/C3, 24 A8/C11, 27 A4/C14, 28 A9/C8, 29 A10/C10
part B pins: 1 GPIO30 (io), 2 GPIO31 (io), 3 GPIO29 (io), 4 GPIO28 (io), 6 GPIO46 (io), 35 GPIO13 (io), 36 GPIO12 (io), 37 GPIO11 (io), 38 GPIO33 (io), 39 GPIO16 (io), 40 GPIO17 (io), 41 GPIO24 (io), 42 GPIO25 (io), 43 GPIO26 (io), 44 GPIO27 (io), 49 GPIO32 (io), 50 GPIO18/X2 (io), 51 GPIO19/X1 (io), 54 GPIO43 (io), 56 GPIO39 (io), 57 GPIO42 (io), 58 GPIO8 (io), 59 GPIO4 (io), 60 GPIO3 (io), 61 GPIO2 (io), 62 GPIO1 (io), 63 GPIO0 (io), 64 GPIO40 (io), 65 GPIO23 (io), 66 GPIO41 (io), 67 GPIO22 (io), 68 GPIO7 (io), 69 GPIO44 (io), 73 GPIO45 (io), 74 GPIO5 (io), 75 GPIO9 (io), 76 GPIO10 (io), 77 GPIO34 (io), 78 GPIO15 (io), 79 GPIO14 (io), 80 GPIO6 (io)
part C pins: 7 VDDIO (power), 8 VDD (power), 9 VSS (power), 25 VSSA (power), 26 VDDA (power), 30 VSS (power), 31 VDD (power), 32 VDDIO (power), 52 VDDIO (power), 53 VDD (power), 55 VSS (power), 70 VSS (power), 71 VDD (power), 72 VDDIO (power)
part D pins: 5 ~{XRS} (io), 33 FLT2 (io), 34 FLT1 (io), 45 TCK (in), 46 GPIO37/TDO (io), 47 TMS (io), 48 GPIO35/TDI (io)

## tcan1042vdrq1
designator U?  (value not drawn)
类型:CAN-FD收发器;数据速率:5Mbps;; Manufacturer: TI(德州仪器); AddInBom: yes; ModelId: e81d2f7d937b4a6ab1dca543ff5d56a4; ModelName: SOIC-8_L4.9-W3.9-H1.7-LS6.0-P1.27; ModelTransform: 192.913,236.22,0,0,0,0,0,0,0; Data Rate: 5Mbps; Voltage - Supply: 4.5V~5.5V; Current - Supply: 80mA; Number of Channels: 1; Quiescent Supply Current: 5uA; Symbol: TCAN1042VDRQ1; LCSC Part Name: TCAN1042-Q1 汽车故障保护 CAN 收发器，带 CAN FD; SupplierPart: C485806; ManufacturerPart: TCAN1042VDRQ1; Supplier Footprint: SOIC-8; JLCPCB Part Class: Extended Part; Datasheet: https://www.ti.com/cn/lit/gpn/tcan1042hv-q1; Supplier: LCSC; ConvertToPcb: yes; FootprintName: SOIC-8_L4.9-W3.9-P1.27-LS6.0-BL; Type: CAN-FD收发器; Operating Temperature: -55℃~+125℃
footprint SOIC-8_L4.9-W3.9-P1.27-LS6.0-BL
pins: 1 TXD, 2 GND, 3 VCC, 4 RXD, 5 VIO, 6 CANL, 7 CANH, 8 STB

## tcan3413dr
designator U?  (value not drawn)
类型:CAN-FD收发器;数据速率:5Mbps;; Manufacturer: TI(德州仪器); AddInBom: yes; ModelId: 75c24a7891ee4dd6bdac16a7163ff87e; ModelName: SOP-8_L4.9-W3.9-P1.27-LS6.0-BL-1; ModelTransform: 192.913,236.22,0,0,0,0,0,0,0; Data Rate: 5Mbps; Voltage - Supply: 3V~3.6V; Current - Supply: 42mA; Supply Current (Iq): 4uA; Symbol: TCAN3413DR; LCSC Part Name: TCAN3413 3.3-V CAN FD 收发器; SupplierPart: C22433320; ManufacturerPart: TCAN3413DR; Supplier Footprint: SOIC-8; JLCPCB Part Class: Extended Part; Datasheet: https://www.ti.com.cn/cn/lit/ds/symlink/tcan3413.pdf?ts=1739433172079&ref_url=https%253A%252F%252Fwww.ti.com.cn%252Fsitesearch%252Fzh-cn%252Fdocs%252Funiversalsearch.tsp%253FlangPref%253Dzh-CN%2526nr%253D19%2526searchTerm%253DTCAN3413DR; Supplier: LCSC; ConvertToPcb: yes; FootprintName: SOP-8_L4.9-W3.9-P1.27-LS6.0-BL-1; Type: CAN-FD收发器; Operating Temperature: -40℃~+125℃
footprint SOP-8_L4.9-W3.9-P1.27-LS6.0-BL-1
pins: 1 TXD, 2 GND, 3 VCC, 4 RXD, 5 VIO, 6 CANL, 7 CANH, 8 STB

## TEST POINT
designator TP?  (value not drawn)
footprint TP-1.5
pins: 1

## tlv9062idgkr
designator U?  (value not drawn)
放大器数:2;轨到轨:轨到轨输入,轨到轨输出;增益带宽积(GBW):10MHz;输入失调电压(Vos):1.6mV;压摆率(SR):55V/us;输入偏置电流(Ib):0.5pA;; Manufacturer: TI(德州仪器); AddInBom: yes; ModelId: fe8ada2663e64b00b932016623def703; ModelName: VSSOP-8_L3.0-W3.0-H1.1-LS4.9-P0.65; ModelTransform: 197.34433,118.11,0,90,0,0,0,0.0005,0; Number of Channels: 2; Maximum Power Supply Range (Vdd-Vss): 9V; Gain Bandwidth Product: 10MHz; Vos - Input Offset Voltage: 1.6mV; Input Offset Voltage Drift(Vos TC): 530nV/℃; Slew Rate: 55V/us; Ib - Input Bias Current: 0.5pA; Input Offset Current(Ios): 0.05pA; Input Voltage Noise Density: 10nV/√Hz@1kHz; Common Mode Rejection Ratio(CMRR): 103dB; Quiescent Current: 538uA; Output Current: 50mA; Single supply: 1.8V~5.5V; Symbol: TLV9062IDGKR; LCSC Part Name: 适用于成本敏感型系统的10MHz、轨到轨输入输出（RRIO）CMOS运算放大器; SupplierPart: C398356; ManufacturerPart: TLV9062IDGKR; Supplier Footprint: VSSOP-8; JLCPCB Part Class: Extended Part; Datasheet: https://www.ti.com/cn/lit/gpn/tlv9061; Supplier: LCSC; ConvertToPcb: yes; FootprintName: VSSOP-8_L3.0-W3.0-P0.65-LS4.9-BL; Rail to Rail: 轨到轨输入,轨到轨输出; Input offset current drift(Ios TC): -; Operating Temperature: -40℃~+125℃; Dual Supply: -
footprint VSSOP-8_L3.0-W3.0-P0.65-LS4.9-BL
part A pins: 1 OUT1, 2 IN1-, 3 IN1+, 4 V-, 8 V+
part B pins: 5 IN2+, 6 IN2-, 7 OUT2

## TP-pad0.8
designator TP?  (value not drawn)
footprint PAD0.8/1.6
pins: 1

## tps62130rgtr
designator U?
功能类型:降压型;工作电压:3V~17V;输出电压:900mV~6V;输出电流:3A;输出类型:可调;; Manufacturer: TI(德州仪器); AddInBom: yes; ModelId: 4b11d3b5aea64910b85c54184b64922e; ModelName: QFN-16_L3.0-W3.0-P0.50-EP1.7; ModelTransform: 118.8974,118.8974,0,0,0,0,0,0,0; Function: 降压型; Voltage - Supply: 3V~17V; Output Current: 3A; Frequency - Switching: 2.5MHz; Synchronous Rectifier: 是; Number of Outputs: 1; Topology: 降压式; Quiescent Current: 17uA; Switch tube (built-in/external): 内置; Output Type: 可调; Symbol: TPS62130RGTR; LCSC Part Name: 降压型 3A 3V~17V; SupplierPart: C43590; ManufacturerPart: TPS62130RGTR; Supplier Footprint: QFN-16-EP(3x3); JLCPCB Part Class: Extended Part; Datasheet: https://www.ti.com/cn/lit/ds/symlink/tps62130.pdf; Supplier: LCSC; ConvertToPcb: yes; FootprintName: QFN-16_L3.0-W3.0-P0.50-TL-EP1.7; Output Voltage: 900mV~6V; Operating Temperature: -40℃~+85℃@(TA); Features: 轻载高效模式；可调软启动；过流保护；输出电压跟随；工作状态指示
footprint QFN-16_L3.0-W3.0-P0.50-TL-EP1.7
pins: 1 SW, 2 SW, 3 SW, 4 PG, 5 FB, 6 AGND, 7 FSW, 8 DEF, 9 SS/TR, 10 AVIN, 11 PVIN, 12 PVIN, 13 EN, 14 VOS, 15 PGND, 16 PGND, 17 EP

## TVS-120V/1.5kW
designator TV?, comment 193V
Vrwm=120V,Vc=193V,Ppp=1.5kW@10/1000us
footprint SMC_L6.9-W5.9-LS7.9-RD
pins: 1 K, 2 A

## type-c 16p cb1.6 073
designator USB?  (value not drawn)
连接器类型:Type-C;协议标准:USB 3.1;公母:母;安装方式:沉板;触点数量:16P;端口数量:1;额定电流 - 电源:3A;工作温度:-25℃~+85℃;; Manufacturer: SHOU HAN(首韩); AddInBom: yes; ModelId: 26f34bb6c6bf4f1dbd42510d10f41fd6; ModelName: USB-C-SMD_SHOU_TYPE-C-16P-CB1.6; ModelTransform: 454.33,283.464,0,0,0,0,0,-42.322,-62.992; Protocol Standard: USB 3.1; Gender: 母; Number of Ports: 1; Current Rating-Power: 3A; Voltage Rating: 5V; Connect-Disconnect Life: 5千次; Detection color: 黑色; Symbol: TYPE-C 16P CB1.6 073; LCSC Part Name: 16P沉板母座; SupplierPart: C2906290; ManufacturerPart: TYPE-C 16P CB1.6 073; Supplier Footprint: SMD; JLCPCB Part Class: Extended Part; Datasheet: https://item.szlcsc.com/datasheet/TYPE-C%252016P%2520CB1.6%2520073/3179000.html; Supplier: LCSC; ConvertToPcb: yes; FootprintName: USB-C-SMD_SHOU_TYPE-C-16P-CB1.6; Connector Type: Type-C; Mounting Type: 沉板; Number of Contacts: 16P; Operating Temperature: -25℃~+85℃
footprint USB-C-SMD_SHOU_TYPE-C-16P-CB1.6
pins: 25 EH, 26 EH, 27 EH, 28 EH, A1 GND, A4 VBUS, A5 CC1, A6 DP1, A7 DN1, A8 SUB1, A9 VBUS, A12 GND, B1 GND, B4 VBUS, B5 CC2, B6 DP2, B7 DN2, B8 SUB2, B9 VBUS, B12 GND

## ucc27282drcr
designator U?  (value not drawn)
驱动配置:半桥;负载类型:MOSFET;驱动通道数:2;灌电流(IOL):3A;拉电流(IOH):3A;工作电压:5.5V~16V;上升时间(tr):12ns;下降时间(tf):10ns;; Manufacturer: TI(德州仪器); AddInBom: yes; ModelId: 300e49eb54114194a2c77d97940ae074; ModelName: VSON-10_L3.0-W3.0-H0.6-P0.50; ModelTransform: 118.8974,118.8974,0,270,0,0,-0.001,0.002,0; Driven Configuration: 半桥; Load Type: MOSFET; Number of Drivers: 2; Current - Output Low(IOL): 3A; Rise Time: 12ns; Fall Time: 10ns; Propagation Delay tpLH: 16ns; Input Logic Level - High: 1.9V~2.4V; Input Logic Level - Low: 900mV~1.3V; Quiescent Current(Iq): 300uA; Symbol: UCC27282DRCR; LCSC Part Name: 具有跨导保护和低开关损耗的3A 120V半桥驱动器; SupplierPart: C2677035; ManufacturerPart: UCC27282DRCR; Supplier Footprint: VSON-10-EP(3x3); JLCPCB Part Class: Extended Part; Datasheet: https://www.ti.com/cn/lit/ds/symlink/ucc27282.pdf; Supplier: LCSC; ConvertToPcb: yes; FootprintName: VSON-10_L3.0-W3.0-P0.50-TL-EP; Current - Output High(IOH): 3A; Voltage - Supply: 5.5V~16V; Propagation Delay tpHL: 16ns; Features: 使能关断；内置自举二极管；交错导通保护; Operating Temperature: -40℃~+140℃
footprint VSON-10_L3.0-W3.0-P0.50-TL-EP
pins: 1 VDD, 2 NC, 3 HB, 4 HO, 5 HS, 6 EN, 7 HI, 8 LI, 9 VSS, 10 LO, 11 EP

## wj500v-5.08-2p
designator P?  (value not drawn)
结构:1x2P;间距:5.08mm;颜色:绿色;安装类型:直插;排数:1;每排PIN数:2;额定电流:18A;额定电压:250V;线规 - AWG:14~30;线规 - 平方毫米:2.5;工作温度:-40℃~+105℃;; Manufacturer: KANGNEX(康奈克斯电气); Symbol: WJ500V-5.08-2P-14-00A; AddInBom: yes; ModelId: 0f4a503c8d3b4ae19ed61267f5e9a1d7; ModelName: CONN-TH_2P-P5.00_WJ500V-5.08-2P; ModelTransform: 423.621,393.7,0,0,0,0,-11.811,19.685,-137.795; Number of Positions or Pins: 1x2P; Pitch: 5.08mm; Number of PINs Per Row: 2; Screw Specification: M2.5; Current Rating: 18A; Voltage Rating (Max): 250V; Wire Gauge - AWG: 14~30; Wire Gauge - mm2: 2.5; LCSC Part Name: 1x2P 5.08mm 直插 排数:1 每排P数:2; SupplierPart: C8465; ManufacturerPart: WJ500V-5.08-2P; Supplier Footprint: 插件,P=5.08mm; JLCPCB Part Class: Extended Part; Datasheet: https://item.szlcsc.com/datasheet/WJ500V-5.08-2P/8959.html; Supplier: LCSC; ConvertToPcb: yes; FootprintName: CONN-TH_2P-P5.00_WJ500V-5.08-2P; Color: 绿色; Mounting Type: 直插; Number of Pins: 2P; Number of Rows: 1; Operating Temperature: -40℃~+105℃
footprint CONN-TH_2P-P5.00_WJ500V-5.08-2P
pins: 1, 2

## X1电容-300Vac/0.1uF
designator CX?, comment 275V104
MP1104K30C3R6LC,SRD(圣融达),100nF ±10% 300V 等级:X1
footprint CAP-TH_L13.0-W6.0-P10.00-D0.6
pins: 1, 2

## xkb8080-z
designator SW?  (value not drawn)
自锁/无锁:自锁;安装方式:直插;触点电流:100mA;额定电压:30V;带灯:不带;作用力:1.6N;工作寿命:10万次;; Manufacturer: XKB Connection(中国星坤); AddInBom: yes; ModelId: 2ca63b555ed647238a13c4f5c2920312; ModelName: SW-TH_L8.0-W8.0-H13.7-P2.5; ModelTransform: 314.96,314.96,0,90,0,0,0,0,-125.984; Self Lock / No Lock: 自锁; Actuator Style: 矩形按钮; Contact Current: 100mA; Voltage Rating: 30V; Actuator/Cap Color: 蓝色; With Lamp: 不带; Operating Force: 1.6N; Life: 10万次; Symbol: XKB8080-Z; LCSC Part Name: 8*8 蓝白黑 自锁开关; SupplierPart: C318860; ManufacturerPart: XKB8080-Z; Supplier Footprint: 插件; JLCPCB Part Class: Extended Part; Datasheet: https://item.szlcsc.com/datasheet/XKB8080-Z/299952.html; Supplier: LCSC; ConvertToPcb: yes; FootprintName: SW-TH_6P-L8.0-W8.0-P2.50; IP Rating: -; Mounting Type: 直插; Termination Style: PC引脚; Operating Temperature: -15℃~+55℃
footprint SW-TH_6P-L8.0-W8.0-P2.50
pins: 1, 2, 3, 4, 5, 6

## xl-2012surc
designator LED?  (value not drawn)
灯头类型:2mmx1.2mm方形灯头;发光颜色:红色;正向压降(Vf):2.3V;功率:50mW;正向电流:20mA;波长:615nm~630nm;二极管配置:独立二极管;透镜颜色:无色透明透镜;色温:-;发光强度:230mcd;发光角度:120°;载带方式:正贴;工作温度:-40℃~+85℃;; Manufacturer: XINGLIGHT(成兴光); AddInBom: yes; ModelId: 9e1095fac56a47ba900124c2261595bd; ModelName: LED0805-RD_RED; ModelTransform: 79.527,49.2125,0,0,0,0,0,-0.004,0; Illumination Color: 红色; Voltage - Forward(Vf): 2.3V; Power(Watts): 50mW; Forward Current: 20mA; Peak Wavelength: 620nm; Diode Configuration: 独立二极管; Lens Color: 无色透明透镜; Luminous Intensity: 230mcd; Viewing Angle: 120°; Symbol: XL-2012SURC; LCSC Part Name: 0805红贴片式发光二极管; SupplierPart: C965812; ManufacturerPart: XL-2012SURC; Supplier Footprint: 0805; JLCPCB Part Class: Extended Part; Datasheet: https://item.szlcsc.com/datasheet/XL-2012SURC/1051421.html; Supplier: LCSC; ConvertToPcb: yes; FootprintName: LED0805-RD_RED; Lamp Holder Type: 2mmx1.2mm方形灯头; Wavelength - Dominant: 615nm~630nm; Color Temperature: -; Mounting Style: 正贴; Operating Temperature: -40℃~+85℃
footprint LED0805-RD_RED
pins: 1 K, 2 A

## Y1电容-1nF
designator CY?, comment 400Vac/1nF/Y1
400Vac/1nF/Y1,KY1102M400VAC70Y10093,KNSCHA(科尼盛)
footprint CAP-TH_L7.5-W4.5-P10.00-D0.6
pins: 1, 2

## zx-pm2.54-2-20py
designator P?  (value not drawn)
插孔结构:2x20P;间距:2.54mm;行距:2.54mm;圆孔/方孔:方孔;安装方式:直插;排数:双排;总孔位数:40P;额定电流:3A;额定电压:-;插孔方向:顶部;塑高:8.5mm;触头材质:黄铜;触头镀层:金;工作温度:-40℃~+105℃;; Manufacturer: Megastar(兆星); AddInBom: yes; ModelId: 6c85b3860eb24e43a9d123684eb6d3ee; ModelName: HDR-TH_40P-P2.54-F-LI-2X20P; ModelTransform: 2015.783,196.85,0,0,0,0,0,0,-125.984; Holes Structure: 2x20P; Pitch: 2.54mm; Circular Hole / Square Hole: 方孔; Number of Positions: 40P; Current Rating: 3A; Holes Direction: 顶部; PIN Length: 3.2mm; Symbol: ZX-PM2.54-2-20PY; LCSC Part Name: 2x20P 间距:2.54mm 直插; SupplierPart: C7499354; ManufacturerPart: ZX-PM2.54-2-20PY; Supplier Footprint: 插件,P=2.54mm; JLCPCB Part Class: Extended Part; Datasheet: https://item.szlcsc.com/datasheet/ZX-PM2.54-2-20PY/8574015.html; Supplier: LCSC; ConvertToPcb: yes; FootprintName: HDR-TH_40P-P2.54-V-F-R2-C20-S2.54; Row Spacing: 2.54mm; Mounting Type: 直插; Number of Rows: 双排; Voltage Rating (Max): -; Insulation Height: 8.5mm; Contact Material: 黄铜; Contact Plating: 金; Operating Temperature: -40℃~+105℃
footprint HDR-TH_40P-P2.54-V-F-R2-C20-S2.54
pins: 1, 2, 3, 4, 5, 6, 7, 8, 9, 10, 11, 12, 13, 14, 15, 16, 17, 18, 19, 20, 21, 22, 23, 24, 25, 26, 27, 28, 29, 30, 31, 32, 33, 34, 35, 36, 37, 38, 39, 40

## 三极管NPN-4401
designator Q?, comment MMBT4401
MMBT4401,耐压:40V 电流:600mA NPN (hFE):300@150mA,1V,GOODWORK(固得沃克),SOT-23
footprint SOT-23-3_L2.9-W1.3-P1.90-LS2.4-BR
pins: 1 B, 2 E, 3 C

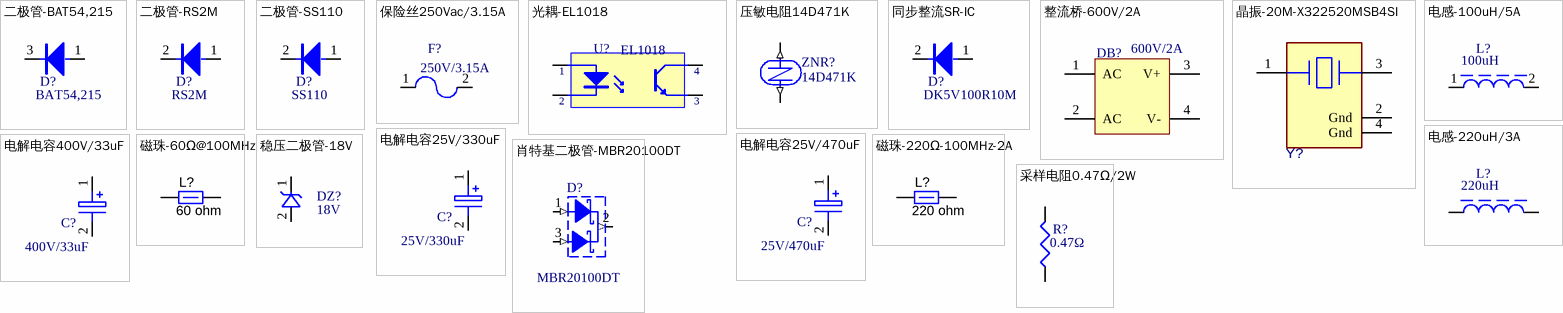
[diagram p3: symbols 二极管-BAT54,215 to 采样电阻0.47Ω/2W]

## 二极管-BAT54,215
designator D?, comment BAT54,215
BAT54,215,安世,SOT-23,肖特基二极管
footprint SOT-23_L2.9-W1.3-P1.90-LS2.4-BR
pins: 1 A, 3 K

## 二极管-RS2M
designator D?, comment RS2M
RS2M,1kV,2A,R+O(宏嘉诚),SMA(DO-214AC)
footprint SMA_L4.3-W2.6-LS5.0-FD
pins: 1 A, 2 K

## 二极管-SS110
designator D?, comment SS110
SS110,100V/1A,肖特基二极管,辰达,SMA(DO-214AC)
footprint SMA_L4.3-W2.6-LS5.2-RD
pins: 1 A, 2 K

## 保险丝250Vac/3.15A
designator F?, comment 250V/3.15A
250V/3.15A,TA2VT3.15,TLC(竞沃),
footprint FUSE-SMD_L6.1-W2.5
pins: 1, 2

## 光耦-EL1018
designator U?, comment EL1018
EL1018,UMW(友台半导体),LSOP-4,CTR=130%~260%,
footprint SOP-4_L3.6-W7.6-P2.54-LS10.2-TL
pins: 1 A, 2 K, 3 E, 4 C

## 压敏电阻14D471K
designator ZNR?, comment 14D471K
14D471K,R+O(宏嘉诚),
footprint RES-TH_L15.5-W5.6-P7.50-D0.8-S1.90
pins: 1 (out), 2 (out)

## 同步整流SR-IC
designator D?, comment DK5V100R10M
DK5V100R10M,SM-10,DK(东科半导体),100V/10mΩ
footprint SM-10_L8.1-W6.1
pins: 1 A, 2 K

## 整流桥-600V/2A
designator DB?, comment 600V/2A
600V/2A,ABS206L,直流反向耐压(Vr)：1kV 平均整流电流(Io)：2A 正向压降(Vf)：1.1V@2A 正向浪涌电流(Ifsm)：70A,NH(纽航)
footprint ABS_L5.1-W4.4-P4.00-LS6.4-BL
pins: 1 AC, 2 AC, 3 V+, 4 V-

## 晶振-20M-X322520MSB4SI
designator Y?, comment 20M  (value not drawn)
20M,X322520MSB4SI,扬兴,SMD3225-4P,常温频差:±10ppm;负载电容:20pF;频率稳定度:±20ppm;; PartNumber: ECS-200-8-30B-CKM; Manufacturer: ECS International; Tolerance_%: 10ppm; Frequency_Fixed: 20MHz; Esr: 40; AEC Qualified: No; Load Capacitance: 8pF; SizeZ_mm: 0.85mm; Datasheet Path: datasheets/Crys-ECS-200-8-30B-CKM.pdf; ComponentLink1URL: https://ecsxtal.com/store/pdf/ecx_53b.pdf; Supplier Part Number 1: XC1841CT-ND; Operating Temperature Range: -20°C to +70°C; PackageReference: SMD4; Mouser Part Number: 520-200-8-30B-CKM; ComponentLink1Description: Datasheet; Part Number: ECS-200-8-30B-CKM; Digikey Description: CRYSTAL 20.0000MHZ 8PF SMD; Supplier 2: Mouser; Mouser Description: Crystals 20.000MHZ 8pF 10ppm -20C +70C; Supplier 1: Digikey; Frequency Stability: 10ppm; datasheet: https://ecsxtal.com/store/pdf/ecx_53b.pdf; Frequency Tolerance: 10ppm; Digikey Part Number: XC1841CT-ND; Lead Free: Yes; helpURL: https://upverter.com/upn/revision/b9ae4a09c701963d/; RoHS: TRUE; Series: ECX-53B; Supplier Part Number 2: 520-200-8-30B-CKM
footprint CRYSTAL-SMD_4P-L3.2-W2.5-BL-2
pins: 1 In/Out, 2 Gnd (power), 3 Out/In, 4 Gnd (power)

## 电感-100uH/5A
designator L?, comment 100uH
100uH/5.5A,SMD,XR1365-101M,SMD,13.5x12.6mm,XR(祥如),i=5.5A,isat=7.5A
footprint IND-SMD_L13.5-W12.6
pins: 1, 2

## 电感-220uH/3A
designator L?, comment 220uH
220uH/3A,SMD,13.2x12.8mm,PSPMAA1270H-221M-CBF,PROD(谱罗德)
footprint IND-SMD_L13.4-W12.6
pins: 1, 2

## 电解电容25V/330uF
designator C?, comment 25V/330uF
25V/330uF,ERS1EM331F12OT,艾华,插件,D8xL12mm,irms=850mA,esr=0.086,
footprint CAP-TH_BD8.0-P3.50-D0.6-FD
pins: 1, 2

## 电解电容25V/470uF
designator C?, comment 25V/470uF
25V/470uF,ERF1EM471F12OT,AISHI(艾华集团),插件,D8xL12mm
footprint CAP-TH_BD8.0-P3.50-D0.6-FD
pins: 1, 2

## 电解电容400V/33uF
designator C?, comment 400V/33uF
400V/33uF,CD110336M2G1317VFL,HRK(鸿瑞凯电子),
footprint CAP-TH_BD13.0-P5.00-D0.6-FD
pins: 1, 2

## 磁珠-60Ω@100MHz
designator L?, comment value 60 ohm  (hidden comment: 60Ω@100MHz)
磁珠,60Ω@100MHz,3A,0805,CBW201209U600T,风华; Manufacturer: Wurth Elektronik; PartNumber: 742792063; Ztyp@1GHz_Ohm: 95.384; ZTyp@100MHz_Ohm: 60; SizeAreaWB_mm2: 6.75; DCR_ohm: 0.025; Value1: 0.025 ohm; SizeZ_mm: 1.45; SizeX_mm: 2; SizeY_mm: 1.25; SizeArea_mm2: 2.5; CompType: Ferrite Bead; ComponentLink1URL: http://katalog.we-online.de/pbs/datasheet/742792063.pdf; Supplier Part Number 2: 710-742792063; Publisher: Texas Instruments; Supplier 2: Mouser; Published: 2014-04-30; RoHS: Y; MountType: SMT; Supplier 1: Digi-Key; PackageReference: 0805; Imax_A: 3A; Value2: 3A; LatestRevisionDate: 2017-03-09; ComponentLink1Description: Datasheet link; Supplier Part Number 1: 732-1612-1-ND; ValueDisplayed: 60 ohm
footprint L0805
pins: 1, 2

## 磁珠-220Ω-100MHz-2A
designator L?, comment ValueDisplayed: 220 ohm  (hidden comment: 220Ω/100 MHz)
磁珠 220Ω @ 100 MHz, 2 A, 0805,BLM21PG221SN1D，村田; Manufacturer: Wurth Elektronik; PartNumber: 742792022; Ztyp@1GHz_Ohm: 190.289; ZTyp@100MHz_Ohm: 220; SizeAreaWB_mm2: 6.75; DCR_ohm: 0.05; Value1: 0.05 ohm; Value: 220 ohm; Imax_A: 2A; SizeZ_mm: 1.45; SizeX_mm: 2; SizeY_mm: 1.25; SizeArea_mm2: 2.5; CompType: Ferrite Bead; ComponentLink1URL: http://katalog.we-online.de/pbs/datasheet/742792022.pdf; Supplier Part Number 2: 710-742792022; Publisher: Texas Instruments; Supplier 2: Mouser; Published: 2014-04-30; RoHS: Y; MountType: SMT; Supplier 1: Digi-Key; PackageReference: 0805; Value2: 2A; LatestRevisionDate: 2017-03-09; ComponentLink1Description: Datasheet link; Supplier Part Number 1: 732-1614-1-ND
footprint L0805
pins: 1, 2

## 稳压二极管-18V
designator DZ?, comment 18V
18V,BZT52C18,SOD-123,R+O(宏嘉诚)
footprint SOD-123_L2.7-W1.6-LS3.7-RD
pins: 1 K, 2 A

## 肖特基二极管-MBR20100DT
designator D?, comment MBR20100DT
MBR20100DT,肖特基共阴二极管,JUXING(钜兴)
footprint TO-252-2_L6.5-W6.1-P4.58-LS10.0-BL
pins: 1 A1 (in), 2 K (out), 3 A2 (in)

## 采样电阻0.47Ω/2W
designator R?, comment 0.47Ω
0.47Ω/2W,2512,HoRS2512-2W-470mR-1%,Milliohm(毫欧),
footprint R2512
pins: 1, 2